# EAGLE library part TPS54232 (library RalimTek)
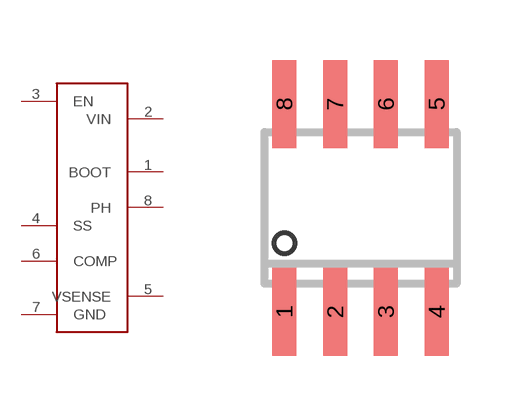
[diagram p5: symbol with the pads of SOIC8; footprint SOIC8]

Designator prefix -

## TPS54232  [SOIC8]
1  BOOT
2  VIN
3  EN
4  SS
5  VSENSE
6  COMP
7  GND
8  PH

## Footprint SOIC8 (pad centres in mm)
Small Outline IC
smd 0.6 x 2.2: 1 -1.905,-2.6; 2 -0.635,-2.6; 3 0.635,-2.6; 4 1.905,-2.6; 5 1.905,2.6; 6 0.635,2.6; 7 -0.635,2.6; 8 -1.905,2.6